# Altium footprint library PCB - LEADED - SOP - COTO CS128TR.PcbLib: 1 footprints
Each footprint in its own frame and in the unit in brackets; x right, y up, seen from the top. Pads: shape width x height; smd on the part's side, far side on the other; paste and mask are expansions set on the pad; w line width, h text height; cw(c..) or ccw(c..) is an arc to the next point about the centre after c.
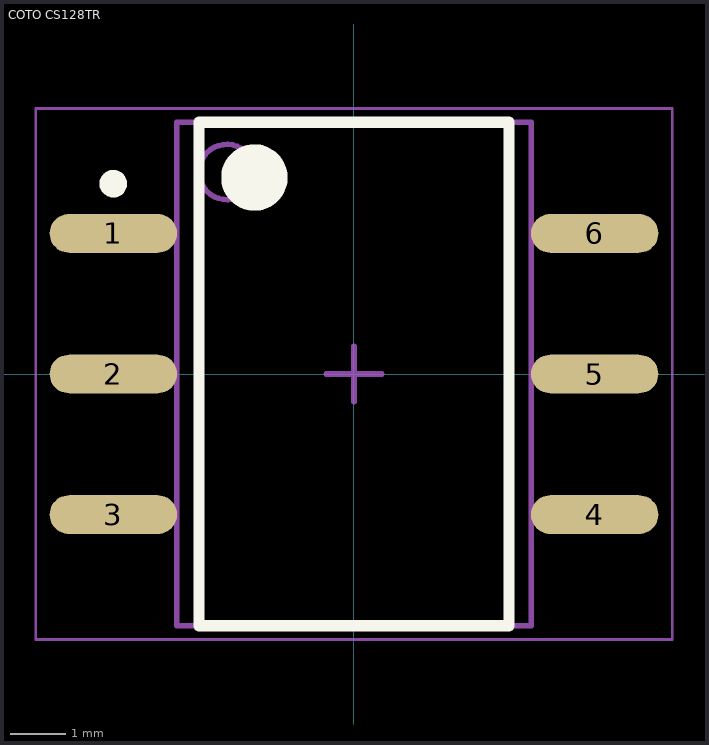
[diagram p0: the footprint, top view; thin cyan lines are the x and y axes]

## COTO CS128TR [mm] "SOP, 6-Leads, Body 9.10x6.40mm, Pitch 2.54mm, IPC Medium Density"
height 3.9
pads (6):
  oval 2.3x0.7 smd: 1(-4.35,2.54) 2(-4.35,0) 3(-4.35,-2.54) 4(4.35,-2.54) 5(4.35,0) 6(4.35,2.54)
Top Overlay:
  circle w0.25: c-4.35,3.44 r0.125
  circle w0.6: c-1.8,3.55 r0.3
  lines w0.2: -2.8,-4.55 -2.8,4.55 2.8,4.55 2.8,-4.55 -2.8,-4.55
Mechanical 13:
  circle w0.1: c-2.3,3.65 r0.5
  lines w0.1: -3.2,-4.55 -3.2,4.55 3.2,4.55 3.2,-4.55 -3.2,-4.55
Mechanical 15:
  lines w0.05: -5.75,-4.8 -5.75,4.8 5.75,4.8 5.75,-4.8 -5.75,-4.8
  lines w0.1: -0.5,0 0.5,0 ; 0,-0.5 0,0.5
3D body "COTO CS128TR.step": height 3.9, standoff 0, extent -5,-4.55 5,4.55